# Altium schematic symbol library stm32f413rht6.schlib: 1 symbol
Pins are listed as number, name and electrical type; pins without a type are passive.

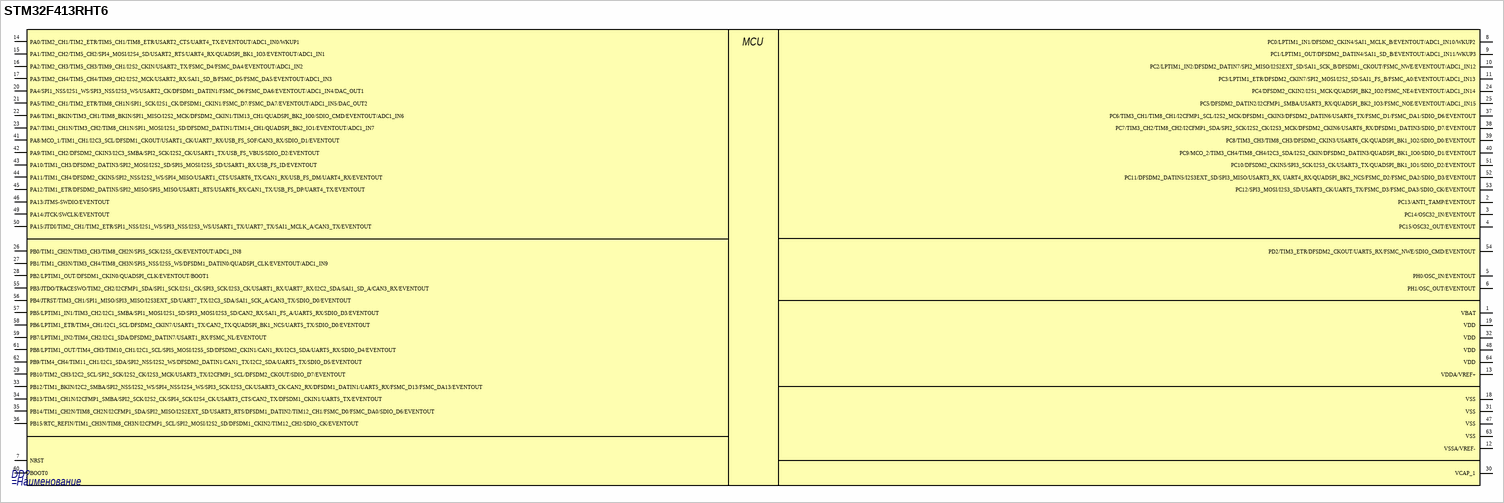
[diagram p0: symbol STM32F413RHT6]

## STM32F413RHT6
designator DD?
=Описание
pins: 1 VBAT, 2 PC13/ANTI_TAMP/EVENTOUT, 3 PC14/OSC32_IN/EVENTOUT, 4 PC15/OSC32_OUT/EVENTOUT, 5 PH0/OSC_IN/EVENTOUT, 6 PH1/OSC_OUT/EVENTOUT, 7 NRST, 8 PC0/LPTIM1_IN1/DFSDM2_CKIN4/SAI1_MCLK_B/EVENTOUT/ADC1_IN10/WKUP2, 9 PC1/LPTIM1_OUT/DFSDM2_DATIN4/SAI1_SD_B/EVENTOUT/ADC1_IN11/WKUP3, 10 PC2/LPTIM1_IN2/DFSDM2_DATIN7/SPI2_MISO/I2S2EXT_SD/SAI1_SCK_B/DFSDM1_CKOUT/FSMC_NWE/EVENTOUT/ADC1_IN12, 11 PC3/LPTIM1_ETR/DFSDM2_CKIN7/SPI2_MOSI/I2S2_SD/SAI1_FS_B/FSMC_A0/EVENTOUT/ADC1_IN13, 12 VSSA/VREF-, 13 VDDA/VREF+, 14 PA0/TIM2_CH1/TIM2_ETR/TIM5_CH1/TIM8_ETR/USART2_CTS/UART4_TX/EVENTOUT/ADC1_IN0/WKUP1, 15 PA1/TIM2_CH2/TIM5_CH2/SPI4_MOSI/I2S4_SD/USART2_RTS/UART4_RX/QUADSPI_BK1_IO3/EVENTOUT/ADC1_IN1, 16 PA2/TIM2_CH3/TIM5_CH3/TIM9_CH1/I2S2_CKIN/USART2_TX/FSMC_D4/FSMC_DA4/EVENTOUT/ADC1_IN2, 17 PA3/TIM2_CH4/TIM5_CH4/TIM9_CH2/I2S2_MCK/USART2_RX/SAI1_SD_B/FSMC_D5/FSMC_DA5/EVENTOUT/ADC1_IN3, 18 VSS, 19 VDD, 20 PA4/SPI1_NSS/I2S1_WS/SPI3_NSS/I2S3_WS/USART2_CK/DFSDM1_DATIN1/FSMC_D6/FSMC_DA6/EVENTOUT/ADC1_IN4/DAC_OUT1, 21 PA5/TIM2_CH1/TIM2_ETR/TIM8_CH1N/SPI1_SCK/I2S1_CK/DFSDM1_CKIN1/FSMC_D7/FSMC_DA7/EVENTOUT/ADC1_IN5/DAC_OUT2, 22 PA6/TIM1_BKIN/TIM3_CH1/TIM8_BKIN/SPI1_MISO/I2S2_MCK/DFSDM2_CKIN1/TIM13_CH1/QUADSPI_BK2_IO0/SDIO_CMD/EVENTOUT/ADC1_IN6, 23 PA7/TIM1_CH1N/TIM3_CH2/TIM8_CH1N/SPI1_MOSI/I2S1_SD/DFSDM2_DATIN1/TIM14_CH1/QUADSPI_BK2_IO1/EVENTOUT/ADC1_IN7, 24 PC4/DFSDM2_CKIN2/I2S1_MCK/QUADSPI_BK2_IO2/FSMC_NE4/EVENTOUT/ADC1_IN14, 25 PC5/DFSDM2_DATIN2/I2CFMP1_SMBA/USART3_RX/QUADSPI_BK2_IO3/FSMC_NOE/EVENTOUT/ADC1_IN15, 26 PB0/TIM1_CH2N/TIM3_CH3/TIM8_CH2N/SPI5_SCK/I2S5_CK/EVENTOUT/ADC1_IN8, 27 PB1/TIM1_CH3N/TIM3_CH4/TIM8_CH3N/SPI5_NSS/I2S5_WS/DFSDM1_DATIN0/QUADSPI_CLK/EVENTOUT/ADC1_IN9, 28 PB2/LPTIM1_OUT/DFSDM1_CKIN0/QUADSPI_CLK/EVENTOUT/BOOT1, 29 PB10/TIM2_CH3/I2C2_SCL/SPI2_SCK/I2S2_CK/I2S3_MCK/USART3_TX/I2CFMP1_SCL/DFSDM2_CKOUT/SDIO_D7/EVENTOUT, 30 VCAP_1, 31 VSS, 32 VDD, 33 PB12/TIM1_BKIN/I2C2_SMBA/SPI2_NSS/I2S2_WS/SPI4_NSS/I2S4_WS/SPI3_SCK/I2S3_CK/USART3_CK/CAN2_RX/DFSDM1_DATIN1/UART5_RX/FSMC_D13/FSMC_DA13/EVENTOUT, 34 PB13/TIM1_CH1N/I2CFMP1_SMBA/SPI2_SCK/I2S2_CK/SPI4_SCK/I2S4_CK/USART3_CTS/CAN2_TX/DFSDM1_CKIN1/UART5_TX/EVENTOUT, 35 PB14/TIM1_CH2N/TIM8_CH2N/I2CFMP1_SDA/SPI2_MISO/I2S2EXT_SD/USART3_RTS/DFSDM1_DATIN2/TIM12_CH1/FSMC_D0/FSMC_DA0/SDIO_D6/EVENTOUT, 36 PB15/RTC_REFIN/TIM1_CH3N/TIM8_CH3N/I2CFMP1_SCL/SPI2_MOSI/I2S2_SD/DFSDM1_CKIN2/TIM12_CH2/SDIO_CK/EVENTOUT, 37 PC6/TIM3_CH1/TIM8_CH1/I2CFMP1_SCL/I2S2_MCK/DFSDM1_CKIN3/DFSDM2_DATIN6/USART6_TX/FSMC_D1/FSMC_DA1/SDIO_D6/EVENTOUT, 38 PC7/TIM3_CH2/TIM8_CH2/I2CFMP1_SDA/SPI2_SCK/I2S2_CK/I2S3_MCK/DFSDM2_CKIN6/USART6_RX/DFSDM1_DATIN3/SDIO_D7/EVENTOUT, 39 PC8/TIM3_CH3/TIM8_CH3/DFSDM2_CKIN3/USART6_CK/QUADSPI_BK1_IO2/SDIO_D0/EVENTOUT, 40 PC9/MCO_2/TIM3_CH4/TIM8_CH4/I2C3_SDA/I2S2_CKIN/DFSDM2_DATIN3/QUADSPI_BK1_IO0/SDIO_D1/EVENTOUT, 41 PA8/MCO_1/TIM1_CH1/I2C3_SCL/DFSDM1_CKOUT/USART1_CK/UART7_RX/USB_FS_SOF/CAN3_RX/SDIO_D1/EVENTOUT, 42 PA9/TIM1_CH2/DFSDM2_CKIN3/I2C3_SMBA/SPI2_SCK/I2S2_CK/USART1_TX/USB_FS_VBUS/SDIO_D2/EVENTOUT, 43 PA10/TIM1_CH3/DFSDM2_DATIN3/SPI2_MOSI/I2S2_SD/SPI5_MOSI/I2S5_SD/USART1_RX/USB_FS_ID/EVENTOUT, 44 PA11/TIM1_CH4/DFSDM2_CKIN5/SPI2_NSS/I2S2_WS/SPI4_MISO/USART1_CTS/USART6_TX/CAN1_RX/USB_FS_DM/UART4_RX/EVENTOUT, 45 PA12/TIM1_ETR/DFSDM2_DATIN5/SPI2_MISO/SPI5_MISO/USART1_RTS/USART6_RX/CAN1_TX/USB_FS_DP/UART4_TX/EVENTOUT, 46 PA13/JTMS-SWDIO/EVENTOUT, 47 VSS, 48 VDD, 49 PA14/JTCK/SWCLK/EVENTOUT, 50 PA15/JTDI/TIM2_CH1/TIM2_ETR/SPI1_NSS/I2S1_WS/SPI3_NSS/I2S3_WS/USART1_TX/UART7_TX/SAI1_MCLK_A/CAN3_TX/EVENTOUT, 51 PC10/DFSDM2_CKIN5/SPI3_SCK/I2S3_CK/USART3_TX/QUADSPI_BK1_IO1/SDIO_D2/EVENTOUT, 52 PC11/DFSDM2_DATIN5/I2S3EXT_SD/SPI3_MISO/USART3_RX, UART4_RX/QUADSPI_BK2_NCS/FSMC_D2/FSMC_DA2/SDIO_D3/EVENTOUT, 53 PC12/SPI3_MOSI/I2S3_SD/USART3_CK/UART5_TX/FSMC_D3/FSMC_DA3/SDIO_CK/EVENTOUT, 54 PD2/TIM3_ETR/DFSDM2_CKOUT/UART5_RX/FSMC_NWE/SDIO_CMD/EVENTOUT, 55 PB3/JTDO/TRACESWO/TIM2_CH2/I2CFMP1_SDA/SPI1_SCK/I2S1_CK/SPI3_SCK/I2S3_CK/USART1_RX/UART7_RX/I2C2_SDA/SAI1_SD_A/CAN3_RX/EVENTOUT, 56 PB4/JTRST/TIM3_CH1/SPI1_MISO/SPI3_MISO/I2S3EXT_SD/UART7_TX/I2C3_SDA/SAI1_SCK_A/CAN3_TX/SDIO_D0/EVENTOUT, 57 PB5/LPTIM1_IN1/TIM3_CH2/I2C1_SMBA/SPI1_MOSI/I2S1_SD/SPI3_MOSI/I2S3_SD/CAN2_RX/SAI1_FS_A/UART5_RX/SDIO_D3/EVENTOUT, 58 PB6/LPTIM1_ETR/TIM4_CH1/I2C1_SCL/DFSDM2_CKIN7/USART1_TX/CAN2_TX/QUADSPI_BK1_NCS/UART5_TX/SDIO_D0/EVENTOUT, 59 PB7/LPTIM1_IN2/TIM4_CH2/I2C1_SDA/DFSDM2_DATIN7/USART1_RX/FSMC_NL/EVENTOUT, 60 BOOT0, 61 PB8/LPTIM1_OUT/TIM4_CH3/TIM10_CH1/I2C1_SCL/SPI5_MOSI/I2S5_SD/DFSDM2_CKIN1/CAN1_RX/I2C3_SDA/UART5_RX/SDIO_D4/EVENTOUT, 62 PB9/TIM4_CH4/TIM11_CH1/I2C1_SDA/SPI2_NSS/I2S2_WS/DFSDM2_DATIN1/CAN1_TX/I2C2_SDA/UART5_TX/SDIO_D5/EVENTOUT, 63 VSS, 64 VDD
text: MCU